# Altium integrated library bq29330.IntLib: 4 symbols
Pins are listed as number, name and electrical type; pins without a type are passive.

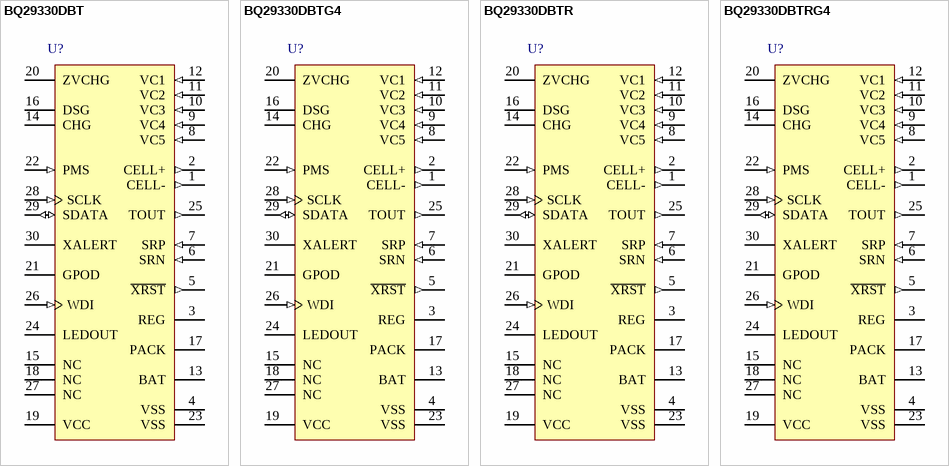
[diagram p0: symbols BQ29330DBT to BQ29330DBTRG4]

## BQ29330DBT
designator U?
Two, Three and Four Cell Lithium or Lithium-Polymer Battery Protection AFE, -40 to 110 degC, 30-pin TSSOP (DBT), Green (RoHS & no Sb/Br); PartNumber: BQ29330DBT; Manufacturer: Texas Instruments; Lead Acid: N; Li-Ion: Y; SubFamily: Lithium Ion Protection; DatasheetVersion: SLUS673E; PackageVersion: 38596; PackageReference: DBT30; PackageDescription: 30-Pin Thin Shrink Small Outline Package 0.5 mm Pitch; Supplier 1: Digi-Key; Supplier Part Number 1: 296-18607-5-ND; Supplier 2: Farnell; Supplier Part Number 2: 2125387; Supplier 3: Newark; Supplier Part Number 3: 58K5583; Supplier 4: Mouser; Supplier Part Number 4: 595-BQ29330DBT; Eco-Plan: Green (RoHS & no Sb/Br); Li-Polymer: Y; NiCd: N; NiMH: N; Over Voltage Protection: Y; Mounting Technology: Surface Mount; Code_JEDEC: MO-153; ComponentLink1Description: Datasheet; ComponentLink1URL: http://www.ti.com/general/docs/lit/getliterature.tsp?genericPartNumber=BQ29330&fileType=pdf
footprint DBT30_N (TSSOP, 30-Leads, Body 7.8x4.4mm, Pitch 0.5mm, IPC Medium Density)
footprint DBT30_L (TSSOP, 30-Leads, Body 7.8x4.4mm, Pitch 0.5mm, IPC High Density)
footprint DBT30_M (TSSOP, 30-Leads, Body 7.8x4.4mm, Pitch 0.5mm, IPC Low Density)
pins: 1 CELL- (out) "Output of scaled value of the measured cell voltage.", 2 CELL+ (out) "Output of scaled value of the measured cell voltage.", 3 REG (power) "Integrated 2.5-V regulator output", 4 VSS (power) "Power supply ground", 5 ~{XRST} (out) "Active-low output", 6 SRN (in) "Current sense terminal", 7 SRP (in) "Current sense positive terminal when charging relative to SRN; current sense negative terminal when discharging relative to SRN", 8 VC5 (in) "Sense voltage input terminal for most negative cell; balance current input for least positive cell.", 9 VC4 (in) "Sense voltage input terminal for least positive cell, balance current input for least positive cell, and return balance current for third most positive cell.", 10 VC3 (in) "Sense voltage input terminal for third most positive cell, balance current input for third most positive cell, and return balance current for second most positive cell.", 11 VC2 (in) "Sense voltage input terminal for second most positive cell, balance current input for second most positive cell, and return balance current for most positive cell.", 12 VC1 (in) "Sense voltage input terminal for most positive cell, balance current input for most positive cell, and battery stack measurement input", 13 BAT (power) "Device power supply input", 14 CHG "Charge pump, charge N-CH FET gate drive", 15 NC "Not electrically connected to the IC", 16 DSG "Charge pump output, discharge N-CH FET gate drive", 17 PACK (power) "PACK positive terminal and alternative power source", 18 NC "Not electrically connected to the IC", 19 VCC (power) "Power supply voltage", 20 ZVCHG "Connect the precharge P-CH FET drive here", 21 GPOD (hiz) "NCH FET open-drain output", 22 PMS (in) "Determines CHG output state on POR", 23 VSS (power) "Power supply ground", 24 LEDOUT (power) "3.3-V output for LED display power supply", 25 TOUT (out) "Provides thermistor bias current", 26 WDI (in) "Digital input that provides the timing clock for the OC and SC delays and also acts as the watchdog clock.", 27 NC "Not electrically connected to the IC", 28 SCLK (in) "Open-drain serial interface clock with internal 10-k ohm pullup to VREG", 29 SDATA (io) "Open-drain bidirectional serial interface data with internal 10-k ohm pullup to VREG", 30 XALERT (oc) "Open-drain output used to indicate status register changes. With internal 100-k ohm pullup to VREG"

## BQ29330DBTG4
designator U?
Two, Three and Four Cell Lithium or Lithium-Polymer Battery Protection AFE, -40 to 110 degC, 30-pin TSSOP (DBT), Green (RoHS & no Sb/Br); PartNumber: BQ29330DBTG4; Manufacturer: Texas Instruments; Lead Acid: N; Li-Ion: Y; SubFamily: Lithium Ion Protection; DatasheetVersion: SLUS673E; PackageVersion: 38596; PackageReference: DBT30; PackageDescription: 30-Pin Thin Shrink Small Outline Package 0.5 mm Pitch; Supplier 1: Digi-Key; Supplier Part Number 1: BQ29330DBTG4-ND; Supplier 2: Newark; Supplier Part Number 2: 67K7905; Supplier 3: Mouser; Supplier Part Number 3: 595-BQ29330DBTG4; Eco-Plan: Green (RoHS & no Sb/Br); Li-Polymer: Y; NiCd: N; NiMH: N; Over Voltage Protection: Y; Mounting Technology: Surface Mount; Code_JEDEC: MO-153; ComponentLink1Description: Datasheet; ComponentLink1URL: http://www.ti.com/general/docs/lit/getliterature.tsp?genericPartNumber=BQ29330&fileType=pdf
footprint DBT30_N (TSSOP, 30-Leads, Body 7.8x4.4mm, Pitch 0.5mm, IPC Medium Density)
footprint DBT30_L (TSSOP, 30-Leads, Body 7.8x4.4mm, Pitch 0.5mm, IPC High Density)
footprint DBT30_M (TSSOP, 30-Leads, Body 7.8x4.4mm, Pitch 0.5mm, IPC Low Density)
pins: 1 CELL- (out) "Output of scaled value of the measured cell voltage.", 2 CELL+ (out) "Output of scaled value of the measured cell voltage.", 3 REG (power) "Integrated 2.5-V regulator output", 4 VSS (power) "Power supply ground", 5 ~{XRST} (out) "Active-low output", 6 SRN (in) "Current sense terminal", 7 SRP (in) "Current sense positive terminal when charging relative to SRN; current sense negative terminal when discharging relative to SRN", 8 VC5 (in) "Sense voltage input terminal for most negative cell; balance current input for least positive cell.", 9 VC4 (in) "Sense voltage input terminal for least positive cell, balance current input for least positive cell, and return balance current for third most positive cell.", 10 VC3 (in) "Sense voltage input terminal for third most positive cell, balance current input for third most positive cell, and return balance current for second most positive cell.", 11 VC2 (in) "Sense voltage input terminal for second most positive cell, balance current input for second most positive cell, and return balance current for most positive cell.", 12 VC1 (in) "Sense voltage input terminal for most positive cell, balance current input for most positive cell, and battery stack measurement input", 13 BAT (power) "Device power supply input", 14 CHG "Charge pump, charge N-CH FET gate drive", 15 NC "Not electrically connected to the IC", 16 DSG "Charge pump output, discharge N-CH FET gate drive", 17 PACK (power) "PACK positive terminal and alternative power source", 18 NC "Not electrically connected to the IC", 19 VCC (power) "Power supply voltage", 20 ZVCHG "Connect the precharge P-CH FET drive here", 21 GPOD (hiz) "NCH FET open-drain output", 22 PMS (in) "Determines CHG output state on POR", 23 VSS (power) "Power supply ground", 24 LEDOUT (power) "3.3-V output for LED display power supply", 25 TOUT (out) "Provides thermistor bias current", 26 WDI (in) "Digital input that provides the timing clock for the OC and SC delays and also acts as the watchdog clock.", 27 NC "Not electrically connected to the IC", 28 SCLK (in) "Open-drain serial interface clock with internal 10-k ohm pullup to VREG", 29 SDATA (io) "Open-drain bidirectional serial interface data with internal 10-k ohm pullup to VREG", 30 XALERT (oc) "Open-drain output used to indicate status register changes. With internal 100-k ohm pullup to VREG"

## BQ29330DBTR
designator U?
Two, Three and Four Cell Lithium or Lithium-Polymer Battery Protection AFE, -40 to 110 degC, 30-pin TSSOP (DBT), Green (RoHS & no Sb/Br); PartNumber: BQ29330DBTR; Manufacturer: Texas Instruments; Lead Acid: N; Li-Ion: Y; SubFamily: Lithium Ion Protection; DatasheetVersion: SLUS673E; PackageVersion: 38596; PackageReference: DBT30; PackageDescription: 30-Pin Thin Shrink Small Outline Package 0.5 mm Pitch; Supplier 1: Digi-Key; Supplier Part Number 1: 296-25927-2-ND; Supplier 2: Digi-Key; Supplier Part Number 2: 296-25927-1-ND; Supplier 3: Digi-Key; Supplier Part Number 3: 296-25927-6-ND; Supplier 4: Newark; Supplier Part Number 4: 58K5584; Supplier 5: Mouser; Supplier Part Number 5: 595-BQ29330DBTR; Eco-Plan: Green (RoHS & no Sb/Br); Li-Polymer: Y; NiCd: N; NiMH: N; Over Voltage Protection: Y; Mounting Technology: Surface Mount; Code_JEDEC: MO-153; ComponentLink1Description: Datasheet; ComponentLink1URL: http://www.ti.com/general/docs/lit/getliterature.tsp?genericPartNumber=BQ29330&fileType=pdf
footprint DBT30_N (TSSOP, 30-Leads, Body 7.8x4.4mm, Pitch 0.5mm, IPC Medium Density)
footprint DBT30_L (TSSOP, 30-Leads, Body 7.8x4.4mm, Pitch 0.5mm, IPC High Density)
footprint DBT30_M (TSSOP, 30-Leads, Body 7.8x4.4mm, Pitch 0.5mm, IPC Low Density)
pins: 1 CELL- (out) "Output of scaled value of the measured cell voltage.", 2 CELL+ (out) "Output of scaled value of the measured cell voltage.", 3 REG (power) "Integrated 2.5-V regulator output", 4 VSS (power) "Power supply ground", 5 ~{XRST} (out) "Active-low output", 6 SRN (in) "Current sense terminal", 7 SRP (in) "Current sense positive terminal when charging relative to SRN; current sense negative terminal when discharging relative to SRN", 8 VC5 (in) "Sense voltage input terminal for most negative cell; balance current input for least positive cell.", 9 VC4 (in) "Sense voltage input terminal for least positive cell, balance current input for least positive cell, and return balance current for third most positive cell.", 10 VC3 (in) "Sense voltage input terminal for third most positive cell, balance current input for third most positive cell, and return balance current for second most positive cell.", 11 VC2 (in) "Sense voltage input terminal for second most positive cell, balance current input for second most positive cell, and return balance current for most positive cell.", 12 VC1 (in) "Sense voltage input terminal for most positive cell, balance current input for most positive cell, and battery stack measurement input", 13 BAT (power) "Device power supply input", 14 CHG "Charge pump, charge N-CH FET gate drive", 15 NC "Not electrically connected to the IC", 16 DSG "Charge pump output, discharge N-CH FET gate drive", 17 PACK (power) "PACK positive terminal and alternative power source", 18 NC "Not electrically connected to the IC", 19 VCC (power) "Power supply voltage", 20 ZVCHG "Connect the precharge P-CH FET drive here", 21 GPOD (hiz) "NCH FET open-drain output", 22 PMS (in) "Determines CHG output state on POR", 23 VSS (power) "Power supply ground", 24 LEDOUT (power) "3.3-V output for LED display power supply", 25 TOUT (out) "Provides thermistor bias current", 26 WDI (in) "Digital input that provides the timing clock for the OC and SC delays and also acts as the watchdog clock.", 27 NC "Not electrically connected to the IC", 28 SCLK (in) "Open-drain serial interface clock with internal 10-k ohm pullup to VREG", 29 SDATA (io) "Open-drain bidirectional serial interface data with internal 10-k ohm pullup to VREG", 30 XALERT (oc) "Open-drain output used to indicate status register changes. With internal 100-k ohm pullup to VREG"

## BQ29330DBTRG4
designator U?
Two, Three and Four Cell Lithium or Lithium-Polymer Battery Protection AFE, -40 to 110 degC, 30-pin TSSOP (DBT), Green (RoHS & no Sb/Br); PartNumber: BQ29330DBTRG4; Manufacturer: Texas Instruments; Lead Acid: N; Li-Ion: Y; SubFamily: Lithium Ion Protection; DatasheetVersion: SLUS673E; PackageVersion: 38596; PackageReference: DBT30; PackageDescription: 30-Pin Thin Shrink Small Outline Package 0.5 mm Pitch; Supplier 1: Digi-Key; Supplier Part Number 1: BQ29330DBTRG4-ND; Supplier 2: Newark; Supplier Part Number 2: 80K5710; Supplier 3: Mouser; Supplier Part Number 3: 595-BQ29330DBTRG4; Eco-Plan: Green (RoHS & no Sb/Br); Li-Polymer: Y; NiCd: N; NiMH: N; Over Voltage Protection: Y; Mounting Technology: Surface Mount; Code_JEDEC: MO-153; ComponentLink1Description: Datasheet; ComponentLink1URL: http://www.ti.com/general/docs/lit/getliterature.tsp?genericPartNumber=BQ29330&fileType=pdf
footprint DBT30_N (TSSOP, 30-Leads, Body 7.8x4.4mm, Pitch 0.5mm, IPC Medium Density)
footprint DBT30_L (TSSOP, 30-Leads, Body 7.8x4.4mm, Pitch 0.5mm, IPC High Density)
footprint DBT30_M (TSSOP, 30-Leads, Body 7.8x4.4mm, Pitch 0.5mm, IPC Low Density)
pins: 1 CELL- (out) "Output of scaled value of the measured cell voltage.", 2 CELL+ (out) "Output of scaled value of the measured cell voltage.", 3 REG (power) "Integrated 2.5-V regulator output", 4 VSS (power) "Power supply ground", 5 ~{XRST} (out) "Active-low output", 6 SRN (in) "Current sense terminal", 7 SRP (in) "Current sense positive terminal when charging relative to SRN; current sense negative terminal when discharging relative to SRN", 8 VC5 (in) "Sense voltage input terminal for most negative cell; balance current input for least positive cell.", 9 VC4 (in) "Sense voltage input terminal for least positive cell, balance current input for least positive cell, and return balance current for third most positive cell.", 10 VC3 (in) "Sense voltage input terminal for third most positive cell, balance current input for third most positive cell, and return balance current for second most positive cell.", 11 VC2 (in) "Sense voltage input terminal for second most positive cell, balance current input for second most positive cell, and return balance current for most positive cell.", 12 VC1 (in) "Sense voltage input terminal for most positive cell, balance current input for most positive cell, and battery stack measurement input", 13 BAT (power) "Device power supply input", 14 CHG "Charge pump, charge N-CH FET gate drive", 15 NC "Not electrically connected to the IC", 16 DSG "Charge pump output, discharge N-CH FET gate drive", 17 PACK (power) "PACK positive terminal and alternative power source", 18 NC "Not electrically connected to the IC", 19 VCC (power) "Power supply voltage", 20 ZVCHG "Connect the precharge P-CH FET drive here", 21 GPOD (hiz) "NCH FET open-drain output", 22 PMS (in) "Determines CHG output state on POR", 23 VSS (power) "Power supply ground", 24 LEDOUT (power) "3.3-V output for LED display power supply", 25 TOUT (out) "Provides thermistor bias current", 26 WDI (in) "Digital input that provides the timing clock for the OC and SC delays and also acts as the watchdog clock.", 27 NC "Not electrically connected to the IC", 28 SCLK (in) "Open-drain serial interface clock with internal 10-k ohm pullup to VREG", 29 SDATA (io) "Open-drain bidirectional serial interface data with internal 10-k ohm pullup to VREG", 30 XALERT (oc) "Open-drain output used to indicate status register changes. With internal 100-k ohm pullup to VREG"